# EAGLE library part USB_A (library kwoo)
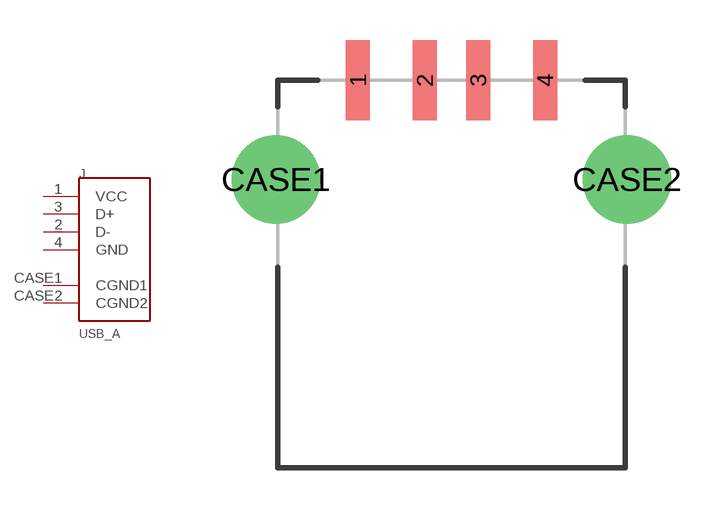
[diagram p36: symbol with the pads of USB_A; footprint USB_A]

Designator prefix J

## USB_A  [USB_A]
1  VCC
2  D-
3  D+
4  GND
CASE1  CGND1
CASE2  CGND2

## Footprint USB_A (pad centres in mm)
smd 0.9 x 3: 1 -3.5,0; 2 -1,0; 3 1,0; 4 3.5,0
drill 2.3 round: CASE1 -6.57,-3.71; CASE2 6.57,-3.71